# EAGLE library part D_SUB_CONNECTOR_SMD (library lbm)
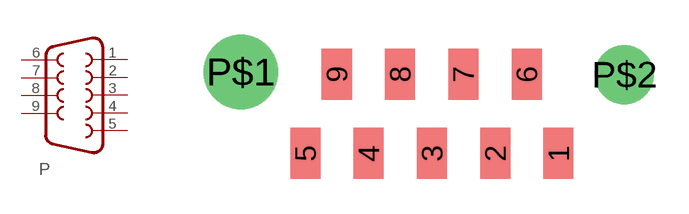
[diagram p46: symbol with the pads of D_SUB_DON_SMD; footprint D_SUB_DON_SMD]

Designator prefix P

## D_SUB_CONNECTOR_SMD  [D_SUB_DON_SMD]
1  1  pas
2  2  pas
3  3  pas
4  4  pas
5  5  pas
6  6  pas
7  7  pas
8  8  pas
9  9  pas

## Footprint D_SUB_DON_SMD (pad centres in mm)
smd 1.3 x 2.2: 1 10.26,-2.308; 2 7.52,-2.318; 3 4.78,-2.318; 4 2.04,-2.318; 5 -0.7,-2.318; 6 8.88,1.102; 7 6.14,1.102; 8 3.4,1.102; 9 0.66,1.102
drill 2.2 round: P$1 -3.5,1.21
drill 1.7 round: P$2 13.11,1.09